# EAGLE library part DDS_MODULE:AD9850 (library dds-module-ad9850)
AD9850 DDS Module Created by Johan Adler, October 2014. Not tested on an actual PCB, so I can't promise anything. Also please check the actual pinout of your specific module. Mine are of the low price eBay version, and the pinout is correct for my modules. The placement of VCC over data pins over GND on the symbol is meant to make it easier to set it up for default serial transfer. For this you would connect D0 and D1 to VCC, D2 to GND. IOUT is analog signal out, sinus wave, QOUT is square wave. Outputs 1 are normal, outputs 2 are inverted.
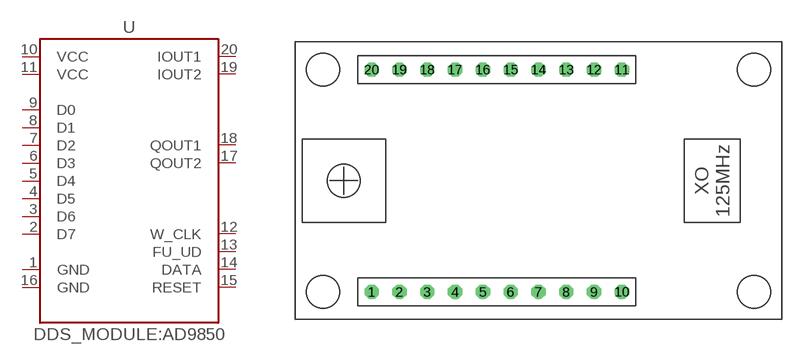
[diagram p0: symbol with the pads of DDS_AD9850; footprint DDS_AD9850]

Designator prefix U

## DDS_MODULE:AD9850DDS_MODULE (VALUE: AD9850 DDS Module)  [DDS_AD9850]
1  GND  pwr
2  D7  in
3  D6  in
4  D5  in
5  D4  in
6  D3  in
7  D2  in
8  D1  in
9  D0  in
10  VCC  pwr
11  VCC  pwr
12  W_CLK  in
13  FU_UD  in
14  DATA  in
15  RESET
16  GND  pwr
17  QOUT2  out
18  QOUT1  out
19  IOUT2  out
20  IOUT1  out

## Footprint DDS_AD9850 (pad centres in mm)
AD9850 DDS module
drill 0.8 octagon: 1 -15.24,-10.16; 2 -12.7,-10.16; 3 -10.16,-10.16; 4 -7.62,-10.16; 5 -5.08,-10.16; 6 -2.54,-10.16; 7 0,-10.16; 8 2.54,-10.16; 9 5.08,-10.16; 10 7.62,-10.16; 11 7.62,10.16; 12 5.08,10.16; 13 2.54,10.16; 14 0,10.16; 15 -2.54,10.16; 16 -5.08,10.16; 17 -7.62,10.16; 18 -10.16,10.16; 19 -12.7,10.16; 20 -15.24,10.16